# Altium footprint library ACTION_Component.PcbLib: 73 footprints (part 2 of 5)
Each footprint in its own frame and in the unit in brackets; x right, y up, seen from the top. Pads: shape width x height; smd on the part's side, far side on the other; paste and mask are expansions set on the pad; w line width, h text height; cw(c..) or ccw(c..) is an arc to the next point about the centre after c.
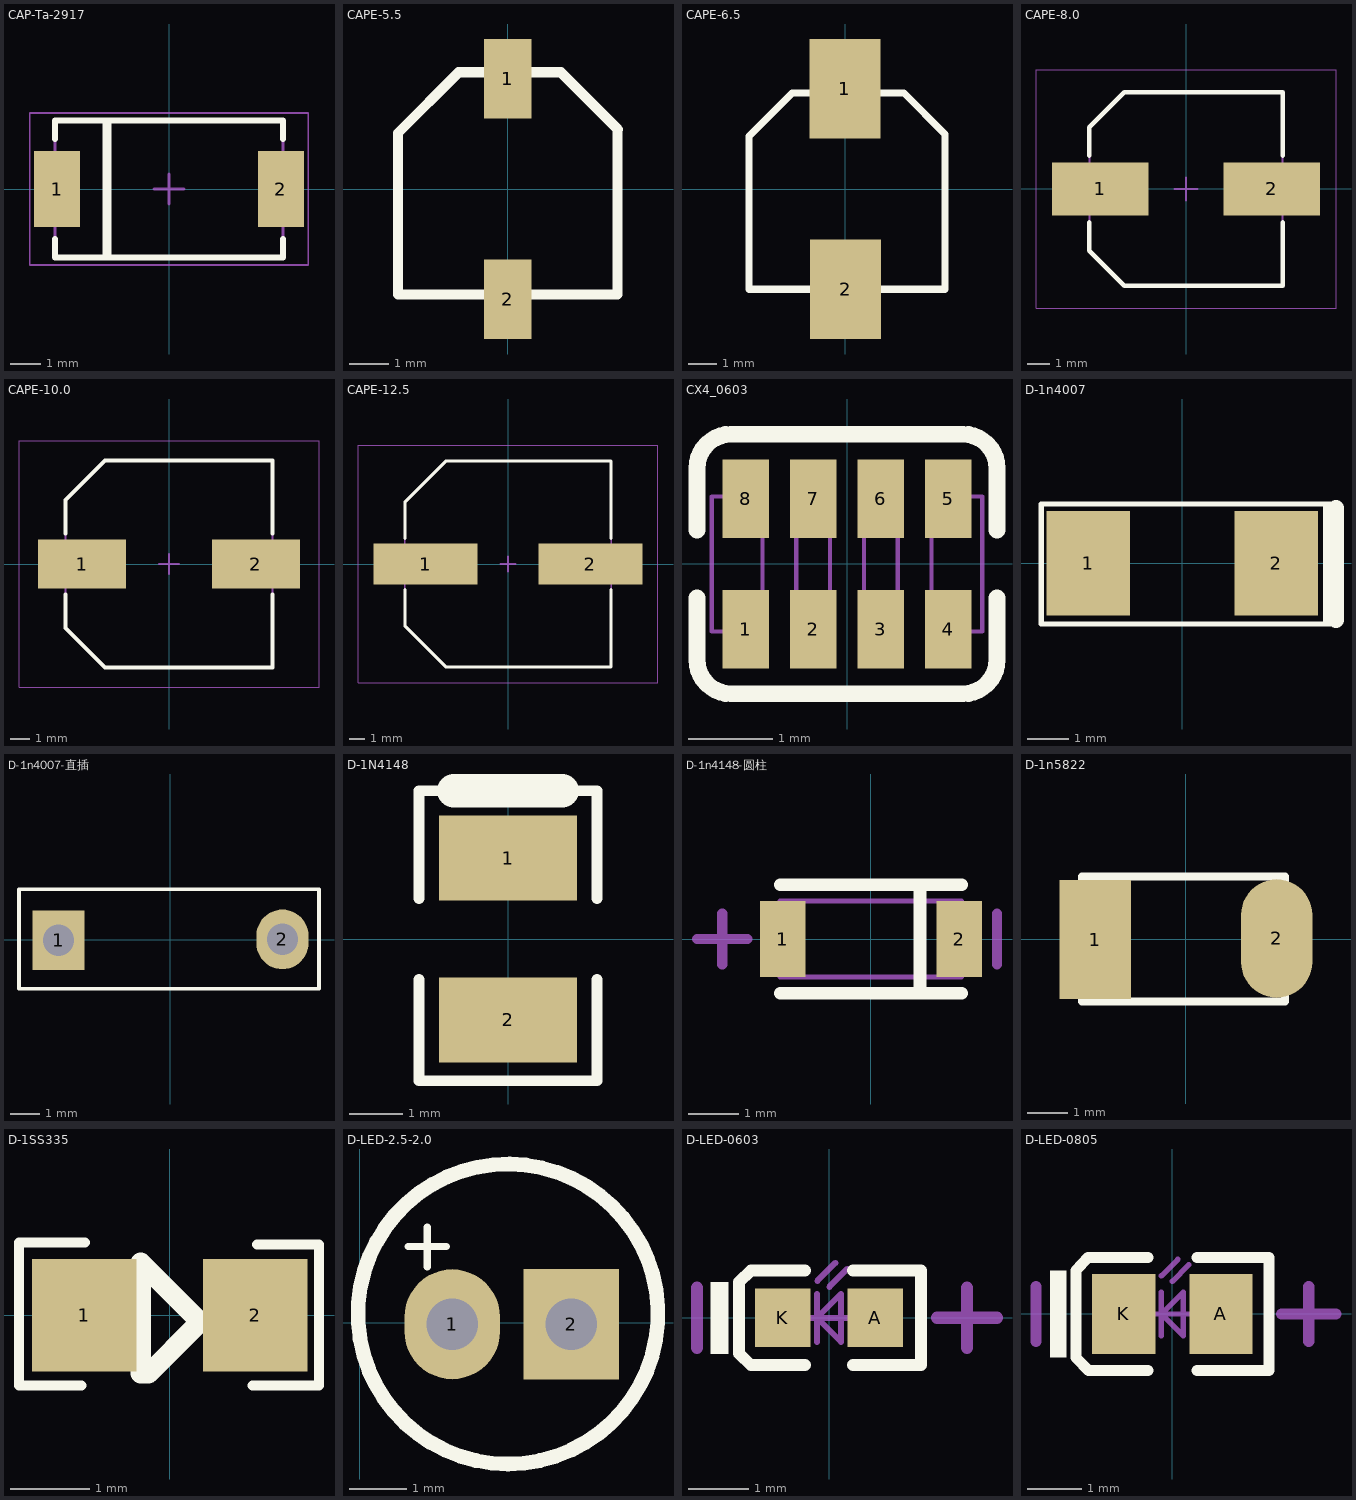
[diagram p1: the footprints below, top view; thin cyan lines are the x and y axes]

## CAP-Ta-2917 [mm]
height 3
pads (2):
  rect 1.5x2.5 smd: 1(-3.684,0) 2(3.684,0)
Top Overlay:
  lines w0.2: -3.75,-1.65 -3.75,-2.25 3.75,-2.25 3.75,-1.65 ; -3.75,1.65 -3.75,2.25 3.75,2.25 3.75,1.65
  lines w0.3: -2.041,-2.159 -2.041,2.174
Mechanical 13:
  lines w0.1: -3.75,-2.25 3.75,-2.25 3.75,2.25 -3.75,2.25 -3.75,-2.25
Mechanical 15:
  lines w0.05: -4.575,-2.5 4.575,-2.5 4.575,2.5 -4.575,2.5 -4.575,-2.5
  lines w0.1: -0.5,0 0.5,0 ; 0,-0.5 0,0.5
3D body: height 3, standoff 0, extent -3.75,-2.25 3.75,2.25

## CAPE-5.5 [mm]
pads (2):
  rect 1.2x2 smd: 1(0,2.781) 2(0,-2.781)
Top Overlay:
  lines w0.254: 1.336,2.944 2.779,1.501 ; -2.769,-2.654 -2.769,1.409 -1.236,2.944 1.328,2.944 2.769,1.504 2.769,-2.654 -2.769,-2.654
3D body "CAPE-C.STEP": height 5.41, standoff 0, extent -2.652,-2.785 2.648,3.115

## CAPE-6.5 [mm]
pads (2):
  rect 2.5x3.5 smd: 1(-0.013,3.531) 2(0.013,-3.531)
Top Overlay:
  lines w0.254: -3.391,-3.531 3.518,-3.531 3.518,1.93 2.07,3.378 -1.867,3.378 -3.391,1.854 -3.391,-3.531
3D body "CAPE-D.STEP": height 5.41, standoff -0.01, extent -3.237,-3.551 3.363,3.449

## CAPE-8.0 [mm]
height 11.9
pads (2):
  rect 4.25x2.35 smd: 1(-3.78,0) 2(3.78,0)
Top Overlay:
  lines w0.2: -4.25,-1.475 -4.25,-2.713 -2.712,-4.25 4.25,-4.25 4.25,-1.475 ; -4.25,1.475 -4.25,2.712 -2.712,4.25 4.25,4.25 4.25,1.475
Mechanical 13:
  lines w0.1: -4.25,-2.713 -4.25,2.712 -2.712,4.25 4.25,4.25 4.25,-4.25 -2.712,-4.25 -4.25,-2.713
Mechanical 15:
  lines w0.05: -6.6,-5.25 6.6,-5.25 6.6,5.25 -6.6,5.25 -6.6,-5.25
  lines w0.1: -0.5,0 0.5,0 ; 0,-0.5 0,0.5
3D body: height 11.9, standoff 0, extent -4,-4 4,3.994
3D body: height 3.97, standoff 0, extent -4.25,-4.25 4.25,4.25

## CAPE-10.0 [mm]
height 10
pads (2):
  rect 4.45x2.5 smd: 1(-4.4,0) 2(4.4,0)
Top Overlay:
  lines w0.2: -5.25,-1.55 -5.25,-3.25 -3.25,-5.25 5.25,-5.25 5.25,-1.55 ; -5.25,1.55 -5.25,3.25 -3.25,5.25 5.25,5.25 5.25,1.55
Mechanical 13:
  lines w0.1: -5.25,-3.25 -3.25,-5.25 5.25,-5.25 5.25,5.25 -3.25,5.25 -5.25,3.25 -5.25,-3.25
Mechanical 15:
  lines w0.05: -7.6,-6.25 -7.6,6.25 7.6,6.25 7.6,-6.25 -7.6,-6.25
  lines w0.1: -0.5,0 0.5,0 ; 0,-0.5 0,0.5
3D body "CAPE-10.0mm.step": height 10, standoff 0, extent -5.5,-5.25 5.5,5.25

## CAPE-12.5 [mm]
height 14
pads (2):
  rect 6.65x2.65 smd: 1(-5.275,0) 2(5.275,0)
Top Overlay:
  lines w0.2: -6.6,-1.625 -6.6,-3.962 -3.963,-6.6 6.6,-6.6 6.6,-1.625 ; -6.6,1.625 -6.6,3.963 -3.963,6.6 6.6,6.6 6.6,1.625
Mechanical 13:
  lines w0.1: -6.6,-3.962 -6.6,3.963 -3.963,6.6 6.6,6.6 6.6,-6.6 -3.963,-6.6 -6.6,-3.962
Mechanical 15:
  lines w0.05: -9.6,-7.6 9.6,-7.6 9.6,7.6 -9.6,7.6 -9.6,-7.6
  lines w0.1: -0.5,0 0.5,0 ; 0,-0.5 0,0.5
3D body: height 4.67, standoff 0, extent -6.6,-6.6 6.6,6.6
3D body "User Library-ALU-H16.step": height 17, standoff 0, extent -7.75,-6.85 7.75,6.85

## CX4_0603 [mm]
pads (8):
  rect 0.55x0.93 smd mask+0.051: 1(-1.2,-0.77) 2(-0.4,-0.77) 3(0.4,-0.77) 4(1.2,-0.77) 5(1.2,0.77) 6(0.4,0.77) 7(-0.4,0.77) 8(-1.2,0.77)
Top Overlay:
  lines w0.2: -1.775,-0.4 -1.775,-1.135 ccw(c-1.375,-1.135) -1.375,-1.535 1.375,-1.535 ccw(c1.375,-1.135) 1.775,-1.135 1.775,-0.4 ; -1.775,0.4 -1.775,1.135 cw(c-1.375,1.135) -1.375,1.535 1.375,1.535 cw(c1.375,1.135) 1.775,1.135 1.775,0.4
Mechanical 13:
  lines w0.05: -1.6,-0.8 -1.6,0.8 -1,0.8 -1,-0.8 -1.6,-0.8 ; -0.6,-0.8 -0.6,0.8 -0.2,0.8 -0.2,-0.8 -0.6,-0.8 ; 0.2,-0.8 0.2,0.8 0.6,0.8 0.6,-0.8 0.2,-0.8 ; 1,-0.8 1,0.8 1.6,0.8 1.6,-0.8 1,-0.8

## D-1n4007 [mil]
pads (2):
  rect 80x100 smd: 1(-90,0) 2(90,0)
Top Overlay:
  lines w5: 129,-58 145,-58 ; 146,57 137,57 ; 137,57 -135,57 -135,-10 -135,-58 137,-58 137,57
  lines w15: 147,-54 147,53
3D body "User Library-Diode SMD 1N4007-1.STEP": height 95.24, standoff -0.43, extent -113.32,-61.21 95.34,61.23

## D-1n4007-直插 [mil]
pads (2):
  rect 70x80 hole 42: 1(-150,-0.5)
  oval 70x80 hole 42: 2(150,0.5)
Top Overlay:
  lines w5: -203,-65.5 199,-65.5 199,67.5 -203,67.5 -203,-65.5
3D body "SW3dPS-1N4007.STEP": height 120.61, standoff -50, extent -169.49,-54.99 161.51,50.01

## D-1N4148 [mm]
height 5.08
pads (2):
  rect 2.6x1.6 smd: 1(0,1.524) 2(0,-1.524)
Top Overlay:
  lines w0.2: -1.676,-0.762 -1.676,-2.667 1.676,-2.667 1.676,-0.762 ; -1.676,0.762 -1.676,2.794 1.676,2.794 1.676,0.762
  lines w0.635: -1.016,2.794 1.016,2.794
3D body "1N4148 SMD.STEP": height 1.25, standoff 0, extent -0.94,-1.925 0.66,1.773

## D-1n4148-圆柱 [mm]
pads (2):
  rect 0.9x1.5 smd: 1(-1.75,0) 2(1.75,0)
Top Overlay:
  lines w0.254: -1.8,-1.075 1.8,-1.075 ; -1.8,1.075 1.8,1.075 ; 0.975,-1.075 0.975,1.075
Mechanical 13:
  lines w0.1: -1.8,-0.75 -1.8,0.75 1.8,0.75 1.8,-0.75 -1.8,-0.75
Mechanical 15:
  lines w0.203: -3.45,0 -2.45,0 ; -2.95,-0.5 -2.95,0.5 ; 2.5,-0.5 2.5,0.5
3D body "DIOMELF3414N.STEP": height 1.46, standoff 0.06, extent -1.675,-0.7 1.725,0.7

## D-1n5822 [mil]
pads (2):
  rect 70x116.3 smd: 1(-89,-0.5)
  oval 70x116.3 smd: 2(89,0.5)
Top Overlay:
  lines w7.87: -102,-61.5 -102,61.5 97,61.5 97,-61.5 -102,-61.5
3D body: height 51.18, standoff 0, extent -103,-60.5 97,59.5

## D-1SS335 [mil]
pads (2):
  rect 52x56 smd: 1(-42.5,0) 2(42.5,0)
Top Overlay:
  lines w5: -43.9,-34.84 -74.9,-34.84 -74.9,36 -42.06,36 ; 41.1,-34.84 74.1,-34.84 74.1,35 43.27,35
  lines w10: 13.11,-5.34 -10.51,-28.96 -14.45,-28.96 -14.45,26.16 13.11,-1.4 ; 13.11,-1.4 13.11,-1.4
3D body: height 70, standoff 0, extent -68.64,-28.4 68.36,27.6

## D-LED-2.5-2.0 [mil]
pads (2):
  oval 65x75 hole 35.13: 1(63,-1)
  rect 65x75 hole 35.13: 2(144,-1)
Top Overlay:
  lines w5: 33,52 59,52 ; 46,38 46,65
  lines w10: -1.1,2.17 cw(c101,6) -1,0
3D body "LED-R.STEP": height 326.77, standoff -118.11, extent 11.45,-100 192.55,100.79

## D-LED-0603 [mm]
pads (2):
  rect 0.93x0.98 smd: A(0.77,0) K(-0.77,0)
Top Overlay:
  rectangle: -1.975,-0.6 -1.675,0.6
  lines w0.2: -0.4,-0.79 -1.3,-0.79 -1.5,-0.597 -1.5,0.597 -1.3,0.79 -0.4,0.79 ; 0.4,-0.79 1.535,-0.79 1.535,0.79 0.4,0.79
Mechanical 13:
  lines w0.1: -0.4,0 0.4,0 ; -0.2,-0.4 -0.2,0.4 ; -0.195,0.617 0.105,0.917 ; 0.005,0.517 0.305,0.817 ; -0.2,0 0.2,0.4 0.2,-0.4 -0.2,0
Mechanical 15:
  lines w0.203: -2.2,-0.5 -2.2,0.5 ; 1.8,0 2.8,0 ; 2.3,-0.5 2.3,0.5
3D body "User Library-LED_0603_R.STEP": height 0.6, standoff 0, extent -0.8,-0.4 0.8,0.4

## D-LED-0805 [mm]
pads (2):
  rect 1.16x1.47 smd: A(0.89,0) K(-0.89,0)
Top Overlay:
  rectangle: -2.245,-0.8 -1.945,0.8
  lines w0.2: -0.45,-1.035 -1.535,-1.035 -1.77,-0.8 -1.77,0.8 -1.55,1.035 -0.45,1.035 ; 0.45,-1.035 1.77,-1.035 1.77,1.035 0.45,1.035
Mechanical 13:
  lines w0.1: -0.4,0 0.4,0 ; -0.2,-0.4 -0.2,0.4 ; -0.2,0.7 0.1,1 ; 0,0.6 0.3,0.9 ; -0.2,0 0.2,-0.4 0.2,0.4 -0.2,0
Mechanical 15:
  lines w0.203: -2.5,-0.5 -2.5,0.5 ; 2,0 3,0 ; 2.5,-0.5 2.5,0.5
3D body "User Library-led_0805.step": height 1.1, standoff 0, extent -1.01,-0.625 1.01,0.625